# Altium footprint library CONN-SPE_MOLEX_79109-1014.PcbLib: 1 footprints
Each footprint in its own frame and in the unit in brackets; x right, y up, seen from the top. Pads: shape width x height; smd on the part's side, far side on the other; paste and mask are expansions set on the pad; w line width, h text height; cw(c..) or ccw(c..) is an arc to the next point about the centre after c.
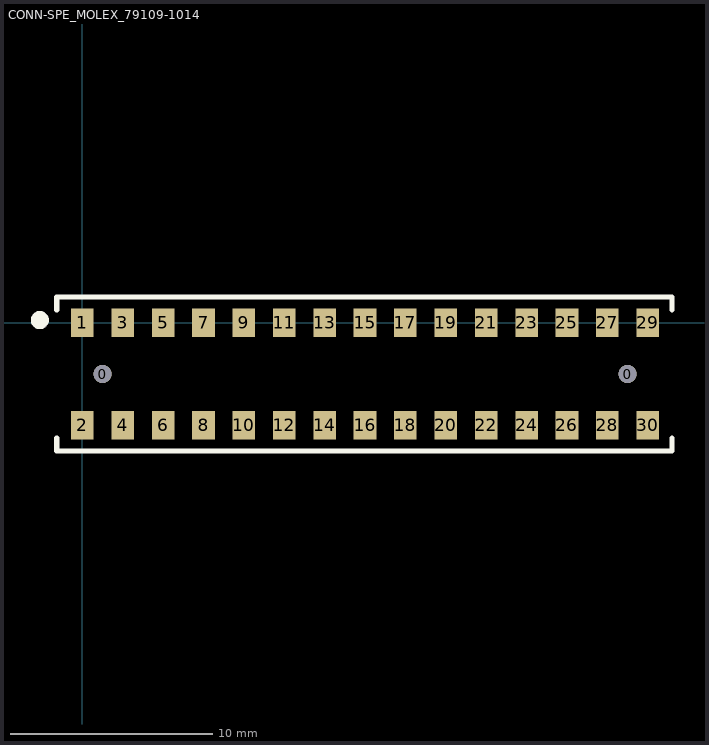
[diagram p0: the footprint, top view; thin cyan lines are the x and y axes]

## CONN-SPE_MOLEX_79109-1014 [mm]
pads (32):
  round 0.9 hole 0.9: 0(1,-2.54) 0(27,-2.54)
  rect 1.12x1.4 smd: 1(0,0) 2(0,-5.08) 3(2,0) 4(2,-5.08) 5(4,0) 6(4,-5.08) 7(6,0) 8(6,-5.08) 9(8,0) 10(8,-5.08) 11(10,0) 12(10,-5.08) 13(12,0) 14(12,-5.08) 15(14,0) 16(14,-5.08) 17(16,0) 18(16,-5.08) 19(18,0) 20(18,-5.08) 21(20,0) 22(20,-5.08) 23(22,0) 24(22,-5.08) 25(24,0) 26(24,-5.08) 27(26,0) 28(26,-5.08) 29(28,0) 30(28,-5.08)
Top Overlay:
  circle w0.5: c-2.105,0.127 r0.2
  lines w0.254: -1.27,-5.715 -1.27,-6.35 29.21,-6.35 29.21,-5.715 ; -1.27,0.635 -1.27,1.27 29.21,1.27 29.21,0.635
3D body: height 4.64, standoff -0.01, extent -1.117,-5.207 29.058,0.127